# Altium footprint library PcbLib1.PcbLib: 2 footprints
Each footprint in its own frame and in the unit in brackets; x right, y up, seen from the top. Pads: shape width x height; smd on the part's side, far side on the other; paste and mask are expansions set on the pad; w line width, h text height; cw(c..) or ccw(c..) is an arc to the next point about the centre after c.
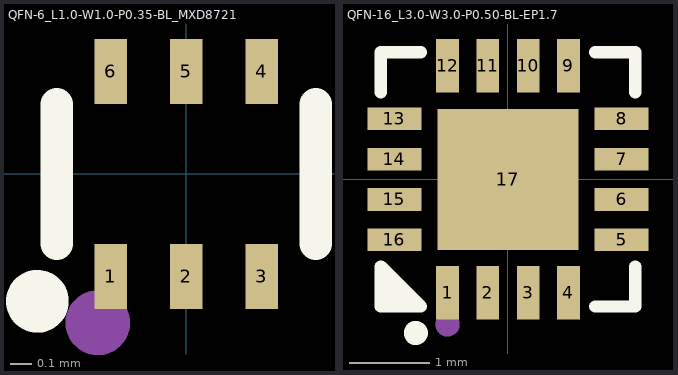
[diagram p0: the footprints below, top view; thin cyan lines are the x and y axes]

## QFN-6_L1.0-W1.0-P0.35-BL_MXD8721 [mm]
pads (6):
  rect 0.15x0.3 smd: 1(-0.35,-0.475) 2(0,-0.475) 3(0.35,-0.475) 4(0.35,0.475) 5(0,0.475) 6(-0.35,0.475)
Top Overlay:
  circle w0.15: c-0.69,-0.59 r0.07
  lines w0.15: -0.6,-0.324 -0.6,0.323 ; 0.6,-0.324 0.6,0.323
Mechanical 15:
  circle w0.15: c-0.41,-0.69 r0.075

## QFN-16_L3.0-W3.0-P0.50-BL-EP1.7 [mm]
pads (17):
  rect 0.28x0.665 smd: 1(-0.75,-1.407) 2(-0.25,-1.407) 3(0.25,-1.407) 4(0.75,-1.407) 9(0.75,1.407) 10(0.25,1.407) 11(-0.25,1.407) 12(-0.75,1.407)
  rect 0.665x0.28 smd: 5(1.407,-0.75) 6(1.407,-0.25) 7(1.407,0.25) 8(1.407,0.75) 13(-1.407,0.75) 14(-1.407,0.25) 15(-1.407,-0.25) 16(-1.407,-0.75)
  rect 1.75x1.75 smd: 17(0,0)
Top Overlay:
  circle w0.15: c-1.143,-1.905 r0.075
  region: -1.524,-1.576 -1.524,-1.143 -1.143,-1.576
  lines w0.152: -1.576,1.08 -1.576,1.576 -1.08,1.576 ; 1.08,-1.576 1.576,-1.576 1.576,-1.08 ; 1.08,1.576 1.576,1.576 1.576,1.08 ; -1.576,-1.576 -1.576,-1.08 -1.08,-1.576 -1.576,-1.576
Top Paste:
  region: -0.7,0.7 0.7,0.7 0.7,-0.7 -0.7,-0.7
  region: -0.89,-1.74 -0.89,-1.075 -0.61,-1.075 -0.61,-1.74
  region: -0.39,-1.74 -0.39,-1.075 -0.11,-1.075 -0.11,-1.74
  region: 0.11,-1.74 0.11,-1.075 0.39,-1.075 0.39,-1.74
  region: 0.61,-1.74 0.61,-1.075 0.89,-1.075 0.89,-1.74
  region: 1.74,-0.89 1.74,-0.61 1.075,-0.61 1.075,-0.89
  region: 1.74,-0.39 1.74,-0.11 1.075,-0.11 1.075,-0.39
  region: 1.74,0.11 1.74,0.39 1.075,0.39 1.075,0.11
  region: 1.74,0.61 1.74,0.89 1.075,0.89 1.075,0.61
  region: 0.61,1.74 0.61,1.075 0.89,1.075 0.89,1.74
  region: 0.11,1.74 0.11,1.075 0.39,1.075 0.39,1.74
  region: -0.39,1.74 -0.39,1.075 -0.11,1.075 -0.11,1.74
  region: -0.89,1.74 -0.89,1.075 -0.61,1.075 -0.61,1.74
  region: -1.075,0.61 -1.075,0.89 -1.74,0.89 -1.74,0.61
  region: -1.075,0.11 -1.075,0.39 -1.74,0.39 -1.74,0.11
  region: -1.075,-0.39 -1.075,-0.11 -1.74,-0.11 -1.74,-0.39
  region: -1.075,-0.89 -1.075,-0.61 -1.74,-0.61 -1.74,-0.89
Mechanical 15:
  circle w0.15: c-0.75,-1.8 r0.075